# Altium footprint library Arduino_DUE_V02b_Template1.PcbLib: 4 footprints
Each footprint in its own frame and in the unit in brackets; x right, y up, seen from the top. Pads: shape width x height; smd on the part's side, far side on the other; paste and mask are expansions set on the pad; w line width, h text height; cw(c..) or ccw(c..) is an arc to the next point about the centre after c.
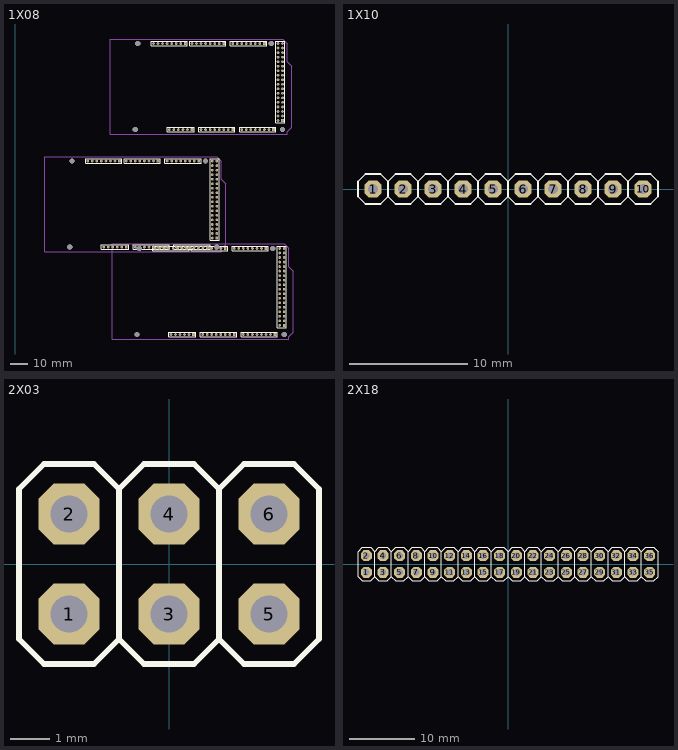
[diagram p0: the footprints below, top view; thin cyan lines are the x and y axes]

## 1X08 [mm]
pads (246):
  rect 1.5x1.5 hole 0.9: 0(80.01,-88.138) 0(116.84,-22.225) 0(117.729,-137.16) 8(58.42,-88.138) 8(95.25,-22.225) 8(96.139,-137.16) 21(102.87,-88.138) 21(139.7,-22.225) 21(140.589,-137.16) 59(62.23,-136.398) 59(99.06,-70.485) 59(99.949,-185.42) 67(85.09,-136.398) 67(121.92,-70.485) 67(122.809,-185.42) 75(107.95,-136.398) 75(144.78,-70.485) 75(145.669,-185.42) 79(113.03,-131.318) 79(149.86,-65.405) 79(150.749,-180.34)
  round 1.5 hole 0.9: 1(77.47,-88.138) 1(114.3,-22.225) 1(115.189,-137.16) 2(74.93,-88.138) 2(111.76,-22.225) 2(112.649,-137.16) 3(72.39,-88.138) 3(109.22,-22.225) 3(110.109,-137.16) 4(69.85,-88.138) 4(106.68,-22.225) 4(107.569,-137.16) 5(67.31,-88.138) 5(104.14,-22.225) 5(105.029,-137.16) 6(64.77,-88.138) 6(101.6,-22.225) 6(102.489,-137.16) 7(62.23,-88.138) 7(99.06,-22.225) 7(99.949,-137.16) 9(55.88,-88.138) 9(92.71,-22.225) 9(93.599,-137.16) 10(53.34,-88.138) 10(90.17,-22.225) 10(91.059,-137.16) 11(50.8,-88.138) 11(87.63,-22.225) 11(88.519,-137.16) 12(48.26,-88.138) 12(85.09,-22.225) 12(85.979,-137.16) 13(45.72,-88.138) 13(82.55,-22.225) 13(83.439,-137.16) 14(85.09,-88.138) 14(121.92,-22.225) 14(122.809,-137.16) 15(87.63,-88.138) 15(124.46,-22.225) 15(125.349,-137.16) 16(90.17,-88.138) 16(127,-22.225) 16(127.889,-137.16) 17(92.71,-88.138) 17(129.54,-22.225) 17(130.429,-137.16) 18(95.25,-88.138) 18(132.08,-22.225) 18(132.969,-137.16) 19(97.79,-88.138) 19(134.62,-22.225) 19(135.509,-137.16) 20(100.33,-88.138) 20(137.16,-22.225) 20(138.049,-137.16) 22(110.49,-90.678) 22(147.32,-24.765) 22(148.209,-139.7) 23(113.03,-90.678) 23(149.86,-24.765) 23(150.749,-139.7) 24(110.49,-93.218) 24(147.32,-27.305) 24(148.209,-142.24) 25(113.03,-93.218) 25(149.86,-27.305) 25(150.749,-142.24) 26(110.49,-95.758) 26(147.32,-29.845) 26(148.209,-144.78) 27(113.03,-95.758) 27(149.86,-29.845) 27(150.749,-144.78) 28(110.49,-98.298) 28(147.32,-32.385) 28(148.209,-147.32) 29(113.03,-98.298) 29(149.86,-32.385) 29(150.749,-147.32) 30(110.49,-100.838) 30(147.32,-34.925) 30(148.209,-149.86) 31(113.03,-100.838) 31(149.86,-34.925) 31(150.749,-149.86) 32(110.49,-103.378) 32(147.32,-37.465) 32(148.209,-152.4) 33(113.03,-103.378) 33(149.86,-37.465) 33(150.749,-152.4) 34(110.49,-105.918) 34(147.32,-40.005) 34(148.209,-154.94) 35(113.03,-105.918) 35(149.86,-40.005) 35(150.749,-154.94) 36(110.49,-108.458) 36(147.32,-42.545) 36(148.209,-157.48) 37(113.03,-108.458) 37(149.86,-42.545) 37(150.749,-157.48) 38(110.49,-110.998) 38(147.32,-45.085) 38(148.209,-160.02) 39(113.03,-110.998) 39(149.86,-45.085) 39(150.749,-160.02) 40(110.49,-113.538) 40(147.32,-47.625) 40(148.209,-162.56) 41(113.03,-113.538) 41(149.86,-47.625) 41(150.749,-162.56) 42(110.49,-116.078) 42(147.32,-50.165) 42(148.209,-165.1) 43(113.03,-116.078) 43(149.86,-50.165) 43(150.749,-165.1) 44(110.49,-118.618) 44(147.32,-52.705) 44(148.209,-167.64) 45(113.03,-118.618) 45(149.86,-52.705) 45(150.749,-167.64) 46(110.49,-121.158) 46(147.32,-55.245) 46(148.209,-170.18) 47(113.03,-121.158) 47(149.86,-55.245) 47(150.749,-170.18) 48(110.49,-123.698) 48(147.32,-57.785) 48(148.209,-172.72) 49(113.03,-123.698) 49(149.86,-57.785) 49(150.749,-172.72) 50(110.49,-126.238) 50(147.32,-60.325) 50(148.209,-175.26) 51(113.03,-126.238) 51(149.86,-60.325) 51(150.749,-175.26) 52(110.49,-128.778) 52(147.32,-62.865) 52(148.209,-177.8) 53(113.03,-128.778) 53(149.86,-62.865) 53(150.749,-177.8) 54(49.53,-136.398) 54(86.36,-70.485) 54(87.249,-185.42) 55(52.07,-136.398) 55(88.9,-70.485) 55(89.789,-185.42) 56(54.61,-136.398) 56(91.44,-70.485) 56(92.329,-185.42) 57(57.15,-136.398) 57(93.98,-70.485) 57(94.869,-185.42) 58(59.69,-136.398) 58(96.52,-70.485) 58(97.409,-185.42) 60(67.31,-136.398) 60(104.14,-70.485) 60(105.029,-185.42) 61(69.85,-136.398) 61(106.68,-70.485) 61(107.569,-185.42) 62(72.39,-136.398) 62(109.22,-70.485) 62(110.109,-185.42) 63(74.93,-136.398) 63(111.76,-70.485) 63(112.649,-185.42) 64(77.47,-136.398) 64(114.3,-70.485) 64(115.189,-185.42) 65(80.01,-136.398) 65(116.84,-70.485) 65(117.729,-185.42) 66(82.55,-136.398) 66(119.38,-70.485) 66(120.269,-185.42) 68(90.17,-136.398) 68(127,-70.485) 68(127.889,-185.42) 69(92.71,-136.398) 69(129.54,-70.485) 69(130.429,-185.42) 70(95.25,-136.398) 70(132.08,-70.485) 70(132.969,-185.42) 71(97.79,-136.398) 71(134.62,-70.485) 71(135.509,-185.42) 72(100.33,-136.398) 72(137.16,-70.485) 72(138.049,-185.42) 73(102.87,-136.398) 73(139.7,-70.485) 73(140.589,-185.42) 74(105.41,-136.398) 74(142.24,-70.485) 74(143.129,-185.42) 76(43.18,-88.138) 76(80.01,-22.225) 76(80.899,-137.16) 77(40.64,-88.138) 77(77.47,-22.225) 77(78.359,-137.16) 78(110.49,-131.318) 78(147.32,-65.405) 78(148.209,-180.34) 80(113.03,-88.138) 80(149.86,-22.225) 80(150.749,-137.16) 81(110.49,-88.138) 81(147.32,-22.225) 81(148.209,-137.16)
via 150.749,-185.42 diameter 3 hole 3
via 144.399,-137.16 diameter 3 hole 3
via 69.469,-137.16 diameter 3 hole 3
via 68.199,-185.42 diameter 3 hole 3
via 113.03,-136.398 diameter 3 hole 3
via 106.68,-88.138 diameter 3 hole 3
via 31.75,-88.138 diameter 3 hole 3
via 30.48,-136.398 diameter 3 hole 3
via 149.86,-70.485 diameter 3 hole 3
via 143.51,-22.225 diameter 3 hole 3
via 68.58,-22.225 diameter 3 hole 3
via 67.31,-70.485 diameter 3 hole 3
Top Overlay:
  lines w0.2: 39.37,-89.408 59.69,-89.408 59.69,-86.868 39.37,-86.868 39.37,-89.408 ; 48.26,-137.668 48.26,-135.128 63.5,-135.128 63.5,-137.668 48.26,-137.668 ; 60.96,-89.408 81.28,-89.408 81.28,-86.868 60.96,-86.868 60.96,-89.408 ; 66.04,-137.668 86.36,-137.668 86.36,-135.128 66.04,-135.128 66.04,-137.668 ; 76.2,-23.495 96.52,-23.495 96.52,-20.955 76.2,-20.955 76.2,-23.495 ; 77.089,-138.43 97.409,-138.43 97.409,-135.89 77.089,-135.89 77.089,-138.43 ; 83.82,-89.408 83.82,-86.868 104.14,-86.868 104.14,-89.408 83.82,-89.408 ; 85.09,-71.755 85.09,-69.215 100.33,-69.215 100.33,-71.755 85.09,-71.755 ; 85.979,-186.69 85.979,-184.15 101.219,-184.15 101.219,-186.69 85.979,-186.69 ; 88.9,-137.668 109.22,-137.668 109.22,-135.128 88.9,-135.128 88.9,-137.668 ; 97.79,-23.495 118.11,-23.495 118.11,-20.955 97.79,-20.955 97.79,-23.495 ; 98.679,-138.43 118.999,-138.43 118.999,-135.89 98.679,-135.89 98.679,-138.43 ; 102.87,-71.755 123.19,-71.755 123.19,-69.215 102.87,-69.215 102.87,-71.755 ; 103.759,-186.69 124.079,-186.69 124.079,-184.15 103.759,-184.15 103.759,-186.69 ; 109.22,-132.588 114.3,-132.588 114.3,-86.868 109.22,-86.868 109.22,-132.588 ; 120.65,-23.495 120.65,-20.955 140.97,-20.955 140.97,-23.495 120.65,-23.495 ; 121.539,-138.43 121.539,-135.89 141.859,-135.89 141.859,-138.43 121.539,-138.43 ; 125.73,-71.755 146.05,-71.755 146.05,-69.215 125.73,-69.215 125.73,-71.755 ; 126.619,-186.69 146.939,-186.69 146.939,-184.15 126.619,-184.15 126.619,-186.69 ; 146.05,-66.675 151.13,-66.675 151.13,-20.955 146.05,-20.955 146.05,-66.675 ; 146.939,-181.61 152.019,-181.61 152.019,-135.89 146.939,-135.89 146.939,-181.61
Mechanical 1:
  lines w0.254: 115.57,-98.308 118.11,-100.848 118.11,-135.128 115.57,-137.668 115.57,-138.938 18.15,-138.938 16.51,-138.938 16.51,-137.298 16.51,-85.598 113.03,-85.598 115.57,-88.138 115.57,-98.298 ; 152.4,-32.395 154.94,-34.935 154.94,-69.215 152.4,-71.755 152.4,-73.025 54.98,-73.025 53.34,-73.025 53.34,-71.385 53.34,-19.685 149.86,-19.685 152.4,-22.225 152.4,-32.385 ; 153.289,-147.33 155.829,-149.87 155.829,-184.15 153.289,-186.69 153.289,-187.96 55.869,-187.96 54.229,-187.96 54.229,-186.32 54.229,-134.62 150.749,-134.62 153.289,-137.16 153.289,-147.32

## 1X10 [mil]
pads (10):
  oct 56x56 hole 33.46: 1(-450,0) 2(-350,0) 3(-250,0) 4(-150,0) 5(-50,0) 6(50,0) 7(150,0) 8(250,0) 9(350,0) 10(450,0)
Top Overlay:
  rectangle: 440,-10 460,10
  rectangle: -460,-10 -440,10
  rectangle: -360,-10 -340,10
  rectangle: -260,-10 -240,10
  rectangle: -160,-10 -140,10
  rectangle: -60,-10 -40,10
  rectangle: 40,-10 60,10
  rectangle: 140,-10 160,10
  rectangle: 240,-10 260,10
  rectangle: 340,-10 360,10
  lines w6: -400,-25 -375,-50 -325,-50 -300,-25 ; -400,-25 -425,-50 -475,-50 -500,-25 -500,25 -475,50 -425,50 -400,25 ; -400,-25 -400,25 ; -400,25 -375,50 -325,50 -300,25 ; -300,-25 -300,25 ; -300,-25 -275,-50 -225,-50 -200,-25 ; -300,25 -275,50 -225,50 -200,25 ; -200,-25 -175,-50 -125,-50 -100,-25 ; -200,-25 -200,25 ; -200,25 -175,50 -125,50 -100,25 ; -100,-25 -75,-50 -25,-50 0,-25 ; -100,-25 -100,25 ; -100,25 -75,50 -25,50 0,25 ; 0,-25 0,25 ; 0,-25 25,-50 75,-50 100,-25 ; 0,25 25,50 75,50 100,25 ; 100,-25 125,-50 175,-50 200,-25 ; 100,-25 100,25 ; 100,25 125,50 175,50 200,25 ; 200,-25 225,-50 275,-50 300,-25 ; 200,-25 200,25 ; 200,25 225,50 275,50 300,25 ; 300,-25 300,25 ; 300,-25 325,-50 375,-50 400,-25 ; 300,25 325,50 375,50 400,25 ; 400,-25 425,-50 475,-50 500,-25 500,25 475,50 425,50 400,25 ; 400,-25 400,25

## 2X03 [mm]
pads (6):
  oct 1.55x1.55 hole 0.95: 1(-2.54,-1.27) 2(-2.54,1.27) 3(0,-1.27) 4(0,1.27) 5(2.54,-1.27) 6(2.54,1.27)
Top Overlay:
  rectangle: 2.286,-1.524 2.794,-1.016
  rectangle: 2.286,1.016 2.794,1.524
  rectangle: -0.254,-1.524 0.254,-1.016
  rectangle: -0.254,1.016 0.254,1.524
  rectangle: -2.794,1.016 -2.286,1.524
  rectangle: -2.794,-1.524 -2.286,-1.016
  lines w0.152: -1.27,-1.905 -1.27,1.905 ; -1.27,-1.905 -0.635,-2.54 0.635,-2.54 1.27,-1.905 ; -1.27,-1.905 -1.905,-2.54 -3.175,-2.54 -3.81,-1.905 -3.81,1.905 -3.175,2.54 -1.905,2.54 -1.27,1.905 ; -1.27,1.905 -0.635,2.54 0.635,2.54 1.27,1.905 ; 1.27,-1.905 1.905,-2.54 3.175,-2.54 3.81,-1.905 3.81,1.905 3.175,2.54 1.905,2.54 1.27,1.905 ; 1.27,-1.905 1.27,1.905

## 2X18 [mil]
pads (36):
  oct 66x66 hole 37.4: 1(-850,-50) 2(-850,50) 3(-750,-50) 4(-750,50) 5(-650,-50) 6(-650,50) 7(-550,-50) 8(-550,50) 9(-450,-50) 10(-450,50) 11(-350,-50) 12(-350,50) 13(-250,-50) 14(-250,50) 15(-150,-50) 16(-150,50) 17(-50,-50) 18(-50,50) 19(50,-50) 20(50,50) 21(150,-50) 22(150,50) 23(250,-50) 24(250,50) 25(350,-50) 26(350,50) 27(450,-50) 28(450,50) 29(550,-50) 30(550,50) 31(650,-50) 32(650,50) 33(750,-50) 34(750,50) 35(850,-50) 36(850,50)
Top Overlay:
  drawing of 163 lines, arcs and shapes, not listed